# Altium footprint library IC.PcbLib: 5 footprints
Each footprint in its own frame and in the unit in brackets; x right, y up, seen from the top. Pads: shape width x height; smd on the part's side, far side on the other; paste and mask are expansions set on the pad; w line width, h text height; cw(c..) or ccw(c..) is an arc to the next point about the centre after c.
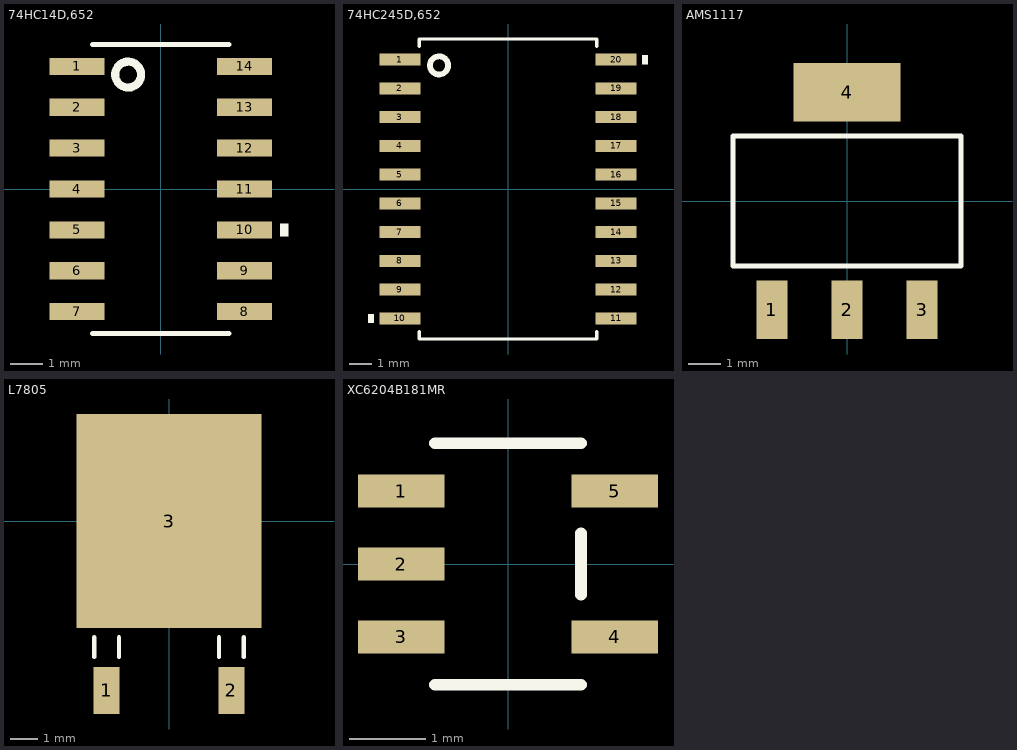
[diagram p0: the footprints below, top view; thin cyan lines are the x and y axes]

## 74HC14D,652 [mil]
pads (14):
  rect 67x21 smd paste+0 mask+0: 1(-102.5,150) 2(-102.5,100) 3(-102.5,50) 4(-102.5,0) 5(-102.5,-50) 6(-102.5,-100) 7(-102.5,-150) 8(102.5,-150) 9(102.5,-100) 10(102.5,-50) 11(102.5,0) 12(102.5,50) 13(102.5,100) 14(102.5,150)
Top Overlay:
  circle w10: c-40,140 r15.81
  region: 146,-42.5 156,-42.5 156,-57.5 146,-57.5
  lines w6: -83.5,-177 83.5,-177 ; -83.5,177 83.5,177
3D body: height 10, standoff 0, extent 0,0 10,10
3D body "SOT108-1_NEX.step": height 69.09, standoff 0, extent -122,-172 122.01,172.01

## 74HC245D,652 [mil]
pads (20):
  rect 71x21 smd paste+0 mask+0: 1(-188,225) 2(-188,175) 3(-188,125) 4(-188,75) 5(-188,25) 6(-188,-25) 7(-188,-75) 8(-188,-125) 9(-188,-175) 10(-188,-225) 11(188,-225) 12(188,-175) 13(188,-125) 14(188,-75) 15(188,-25) 16(188,25) 17(188,75) 18(188,125) 19(188,175) 20(188,225)
Top Overlay:
  circle w10: c-120,215 r15.81
  region: 233.5,232.5 243.5,232.5 243.5,217.5 233.5,217.5
  region: -233.5,-217.5 -243.5,-217.5 -243.5,-232.5 -233.5,-232.5
  lines w6: -154.5,-248.6 -154.5,-261 154.5,-261 154.5,-248.6 ; -154.5,248.6 -154.5,261 154.5,261 154.5,248.6
3D body: height 10, standoff 0, extent 0,0 10,10
3D body "SOT163-1_NEX.step": height 104.09, standoff 0, extent -209.48,-255.98 209.49,255.99

## AMS1117 [mil]
pads (4):
  rect 37x70 smd paste+0 mask+0: 1(-90.16,-130.5) 2(0,-130.5) 3(90.16,-130.5)
  rect 128x70 smd paste+0 mask+0: 4(0,130.5)
Top Overlay:
  lines w6: -137,-78 137,-78 137,78 -137,78 -137,-78
3D body "SOT_AMS1117-2_5_AMS.step": height 71.1, standoff 0, extent -132,-143.5 132.01,143.51
3D body: height 10, standoff 0, extent 0,0 10,10

## L7805 [mil]
pads (3):
  rect 37x67 smd: 1(-88.58,-240.5) 2(88.58,-240.5)
  rect 262x304 smd: 3(0,0)
Top Overlay:
  lines w6: -106.08,-193 -106.08,-165.1 ; -71.08,-193 -71.08,-165.1 ; 71.08,-193 71.08,-165.1 ; 106.08,-193 106.08,-165.1
3D body "DPAK.step": height 95.12, standoff -2.01, extent -130,-252.56 130,92.56
3D body: height 10, standoff 0, extent 0,0 10,10

## XC6204B181MR [mil]
pads (5):
  rect 44.5x17 smd paste+0 mask+0: 1(-54.75,37.4) 2(-54.75,0) 3(-54.75,-37.4) 4(54.75,-37.4) 5(54.75,37.4)
Top Overlay:
  lines w6: -37.5,-62 37.5,-62 ; -37.5,62 37.5,62 ; 37.5,-15.8 37.5,15.8
3D body "XC620405_SOT-25_TOR.step": height 51.1, standoff 0, extent -54.99,-57 55,57.01
3D body: height 10, standoff 0, extent 0,0 10,10